# EAGLE library part OP1177 (library SMD)
Precision Low Noise, Low Input Bias Current Operational Amplifiers Source: OP1177_2177_4177.pdf
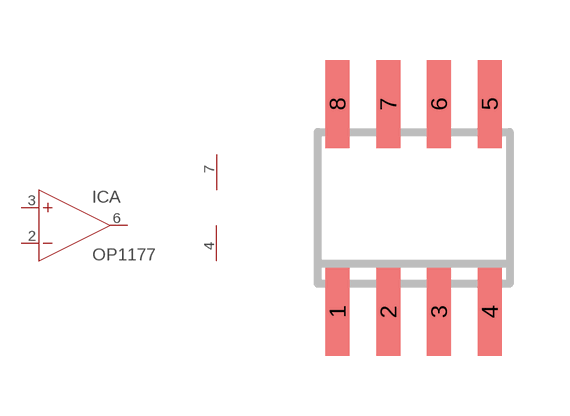
[diagram p7: symbol with the pads of SO08; footprint SO08]

Designator prefix IC; gates A=OPAMP B=PWR+- C=NC D=NC E=NC

## OP1177  [SO08]
1  C:NC
2  A:-IN  in
3  A:+IN  in
4  B:V-  pwr
5  D:NC
6  A:OUT  out
7  B:V+  pwr
8  E:NC

## Footprint SO08 (pad centres in mm)
Small Outline Package 8 NS Package M08A
smd 0.6 x 2.2: 1 -1.905,-2.6; 2 -0.635,-2.6; 3 0.635,-2.6; 4 1.905,-2.6; 5 1.905,2.6; 6 0.635,2.6; 7 -0.635,2.6; 8 -1.905,2.6